# EAGLE library part MCU_ATMEGA169_64P (library akita)
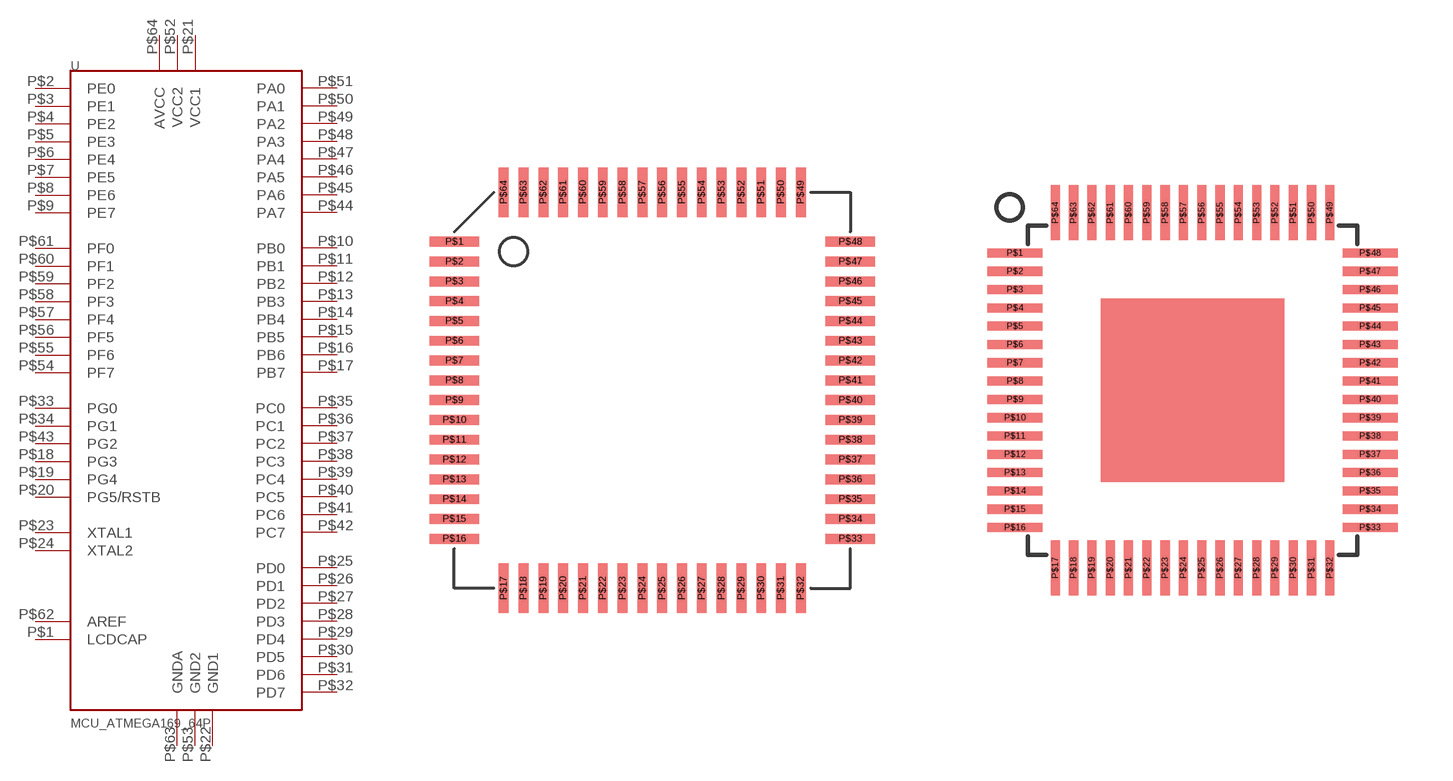
[diagram p45: symbol with the pads of TQFP64_08MM; footprints TQFP64_08MM, QFN64]

Designator prefix -

## MCU_ATMEGA169_64P64A  [TQFP64_08MM]
P$1  LCDCAP
P$2  PE0
P$3  PE1
P$4  PE2
P$5  PE3
P$6  PE4
P$7  PE5
P$8  PE6
P$9  PE7
P$10  PB0
P$11  PB1
P$12  PB2
P$13  PB3
P$14  PB4
P$15  PB5
P$16  PB6
P$17  PB7
P$18  PG3
P$19  PG4
P$20  PG5/RSTB
P$21  VCC1
P$22  GND1
P$23  XTAL1
P$24  XTAL2
P$25  PD0
P$26  PD1
P$27  PD2
P$28  PD3
P$29  PD4
P$30  PD5
P$31  PD6
P$32  PD7
P$33  PG0
P$34  PG1
P$35  PC0
P$36  PC1
P$37  PC2
P$38  PC3
P$39  PC4
P$40  PC5
P$41  PC6
P$42  PC7
P$43  PG2
P$44  PA7
P$45  PA6
P$46  PA5
P$47  PA4
P$48  PA3
P$49  PA2
P$50  PA1
P$51  PA0
P$52  VCC2
P$53  GND2
P$54  PF7
P$55  PF6
P$56  PF5
P$57  PF4
P$58  PF3
P$59  PF2
P$60  PF1
P$61  PF0
P$62  AREF
P$63  GNDA
P$64  AVCC

## MCU_ATMEGA169_64P64M1  [QFN64]
Pads as for TQFP64_08MM

## Footprint TQFP64_08MM (pad centres in mm)
smd 2 x 0.4: P$1 -8,6; P$2 -8,5.2; P$3 -8,4.4; P$4 -8,3.6; P$5 -8,2.8; P$6 -8,2; P$7 -8,1.2; P$8 -8,0.4; P$9 -8,-0.4; P$10 -8,-1.2; P$11 -8,-2; P$12 -8,-2.8; P$13 -8,-3.6; P$14 -8,-4.4; P$15 -8,-5.2; P$16 -8,-6; P$33 8,-6; P$34 8,-5.2; P$35 8,-4.4; P$36 8,-3.6; P$37 8,-2.8; P$38 8,-2; P$39 8,-1.2; P$40 8,-0.4; P$41 8,0.4; P$42 8,1.2; P$43 8,2; P$44 8,2.8; P$45 8,3.6; P$46 8,4.4; P$47 8,5.2; P$48 8,6
smd 0.4 x 2: P$17 -6,-8; P$18 -5.2,-8; P$19 -4.4,-8; P$20 -3.6,-8; P$21 -2.8,-8; P$22 -2,-8; P$23 -1.2,-8; P$24 -0.4,-8; P$25 0.4,-8; P$26 1.2,-8; P$27 2,-8; P$28 2.8,-8; P$29 3.6,-8; P$30 4.4,-8; P$31 5.2,-8; P$32 6,-8; P$49 6,8; P$50 5.2,8; P$51 4.4,8; P$52 3.6,8; P$53 2.8,8; P$54 2,8; P$55 1.2,8; P$56 0.4,8; P$57 -0.4,8; P$58 -1.2,8; P$59 -2,8; P$60 -2.8,8; P$61 -3.6,8; P$62 -4.4,8; P$63 -5.2,8; P$64 -6,8

## Footprint QFN64 (pad centres in mm)
smd 1.5 x 0.25: P$1 -4.85,3.75; P$2 -4.85,3.25; P$3 -4.85,2.75; P$4 -4.85,2.25; P$5 -4.85,1.75; P$6 -4.85,1.25; P$7 -4.85,0.75; P$8 -4.85,0.25; P$9 -4.85,-0.25; P$10 -4.85,-0.75; P$11 -4.85,-1.25; P$12 -4.85,-1.75; P$13 -4.85,-2.25; P$14 -4.85,-2.75; P$15 -4.85,-3.25; P$16 -4.85,-3.75; P$33 4.85,-3.75; P$34 4.85,-3.25; P$35 4.85,-2.75; P$36 4.85,-2.25; P$37 4.85,-1.75; P$38 4.85,-1.25; P$39 4.85,-0.75; P$40 4.85,-0.25; P$41 4.85,0.25; P$42 4.85,0.75; P$43 4.85,1.25; P$44 4.85,1.75; P$45 4.85,2.25; P$46 4.85,2.75; P$47 4.85,3.25; P$48 4.85,3.75
smd 0.25 x 1.5: P$17 -3.75,-4.85; P$18 -3.25,-4.85; P$19 -2.75,-4.85; P$20 -2.25,-4.85; P$21 -1.75,-4.85; P$22 -1.25,-4.85; P$23 -0.75,-4.85; P$24 -0.25,-4.85; P$25 0.25,-4.85; P$26 0.75,-4.85; P$27 1.25,-4.85; P$28 1.75,-4.85; P$29 2.25,-4.85; P$30 2.75,-4.85; P$31 3.25,-4.85; P$32 3.75,-4.85; P$49 3.75,4.85; P$50 3.25,4.85; P$51 2.75,4.85; P$52 2.25,4.85; P$53 1.75,4.85; P$54 1.25,4.85; P$55 0.75,4.85; P$56 0.25,4.85; P$57 -0.25,4.85; P$58 -0.75,4.85; P$59 -1.25,4.85; P$60 -1.75,4.85; P$61 -2.25,4.85; P$62 -2.75,4.85; P$63 -3.25,4.85; P$64 -3.75,4.85